# Altium schematic symbol library SCH - POWER - LINEAR VREG - TI LP2981A-28DBV.SchLib: 1 symbol
Pins are listed as number, name and electrical type; pins without a type are passive.

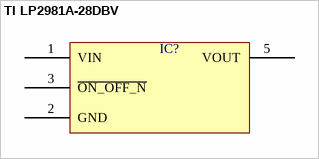
[diagram p0: symbol TI LP2981A-28DBV]

## TI LP2981A-28DBV
designator IC?  (value not drawn)
pins: 1 VIN, 2 GND, 3 ~{ON_OFF_N}, 5 VOUT